# Altium footprint library BGA24C100P5X5_600X800X100.PcbLib: 1 footprints
Each footprint in its own frame and in the unit in brackets; x right, y up, seen from the top. Pads: shape width x height; smd on the part's side, far side on the other; paste and mask are expansions set on the pad; w line width, h text height; cw(c..) or ccw(c..) is an arc to the next point about the centre after c.
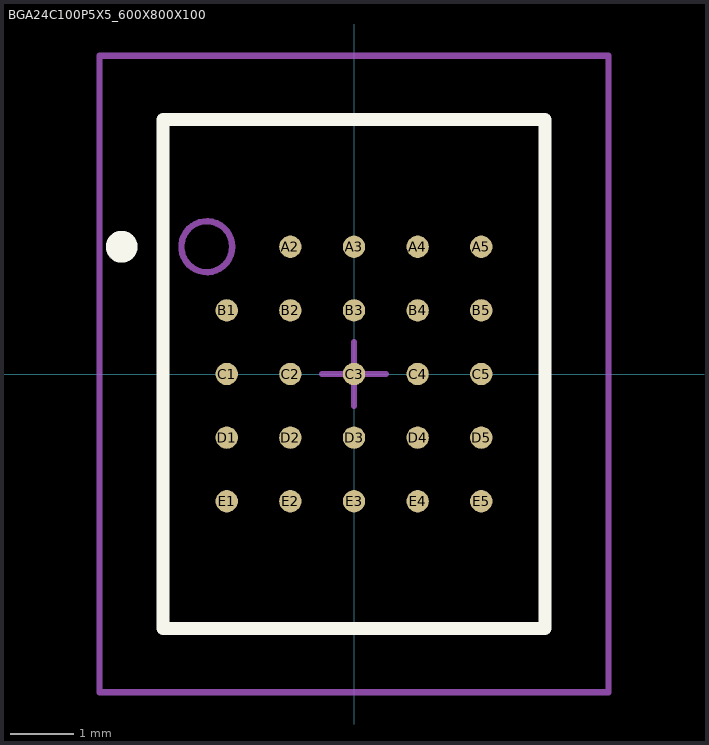
[diagram p0: the footprint, top view; thin cyan lines are the x and y axes]

## BGA24C100P5X5_600X800X100 [mm] "BGA,1.00mm pitch,rect.;24 pin,5 columns X 5 rows,6.00mm X 8.00mm X 1.00mm H"
height 1
pads (24):
  round 0.35 smd paste+0 mask+0: A2(-1,2) A3(0,2) A4(1,2) A5(2,2) B1(-2,1) B2(-1,1) B3(0,1) B4(1,1) B5(2,1) C1(-2,0) C2(-1,0) C3(0,0) C4(1,0) C5(2,0) D1(-2,-1) D2(-1,-1) D3(0,-1) D4(1,-1) D5(2,-1) E1(-2,-2) E2(-1,-2) E3(0,-2) E4(1,-2) E5(2,-2)
Top Overlay:
  circle w0.25: c-3.65,2 r0.125
  lines w0.2: -3,-4 -3,4 3,4 3,-4 -3,-4
M3 (ASY_Text_Top):
  text ".DESIGNATOR" at 0,0 h1.2
M13 (CMP_Body_OTL_Top):
  circle w0.1: c-2.313,2 r0.4
  lines w0.1: -3,-4 -3,4 3,4 3,-4 -3,-4
M15 (CMP_Courtyard_Top):
  lines w0.1: -0.5,0 0.5,0 ; 0,-0.5 0,0.5 ; -4,-5 -4,5 4,5 4,-5 -4,-5
3D body "FBGA-24_1.0P_6.0X8.0X1.0.step": height 1, standoff 0, extent -3,-4 3,4